# EAGLE library part DIP4 (library switches)
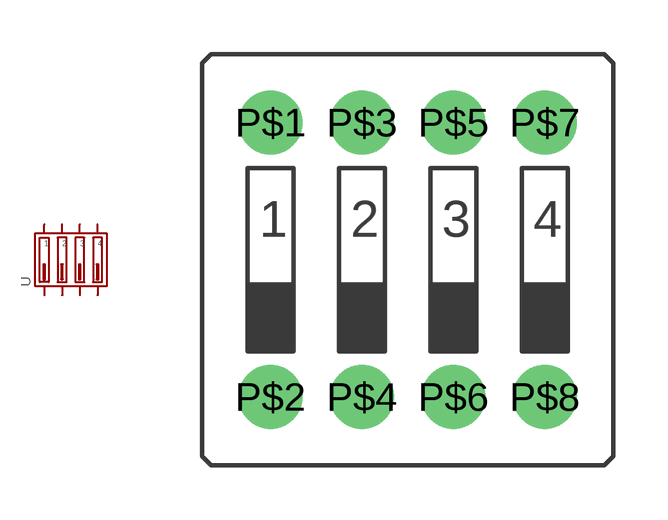
[diagram p7: symbol with the pads of DIP4; footprint DIP4]

Designator prefix -

## DIP4  [DIP4]
P$1  1
P$2  2
P$3  3
P$4  4
P$5  5
P$6  6
P$7  7
P$8  8

## Footprint DIP4 (pad centres in mm)
drill 1.016 pad 1.778: P$1 -3.81,3.81; P$2 -3.81,-3.81; P$3 -1.27,3.81; P$4 -1.27,-3.81; P$5 1.27,3.81; P$6 1.27,-3.81; P$7 3.81,3.81; P$8 3.81,-3.81